# Altium footprint library CDLL5819.PcbLib: 3 footprints
Each footprint in its own frame and in the unit in brackets; x right, y up, seen from the top. Pads: shape width x height; smd on the part's side, far side on the other; paste and mask are expansions set on the pad; w line width, h text height; cw(c..) or ccw(c..) is an arc to the next point about the centre after c.
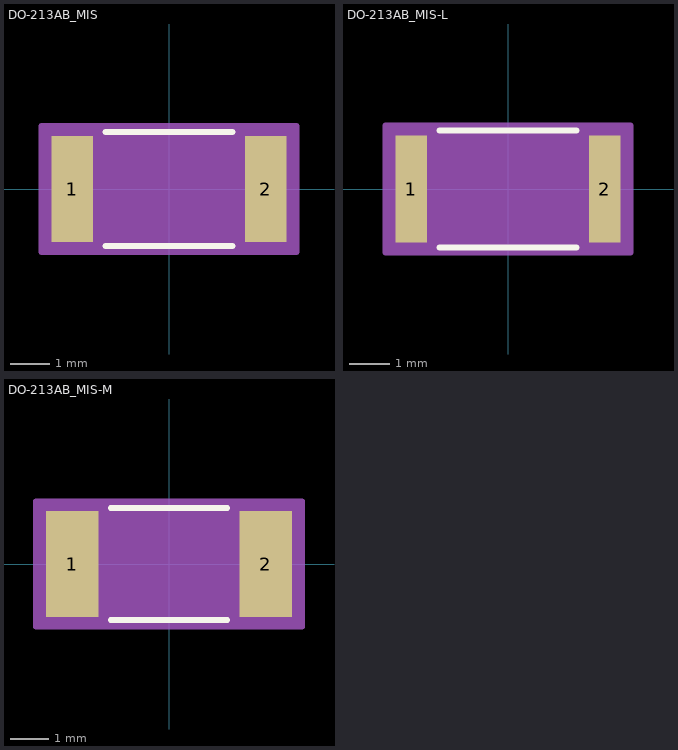
[diagram p0: the footprints below, top view; thin cyan lines are the x and y axes]

## DO-213AB_MIS [mil]
pads (2):
  rect 42x107 smd paste+0 mask+0: 1(-97.5,0) 2(97.5,0)
Top Overlay:
  lines w6: -64.03,-57.5 64.03,-57.5 ; -64.03,57.5 64.03,57.5
Mechanical 5:
  region: 126,-61 -126,-61 -126,61 126,61
Mechanical 13:
  lines w1: -102.5,-26.25 -76.25,-52.5 ; -102.5,26.25 -76.25,52.5 ; -102.5,-52.5 102.5,-52.5 102.5,52.5 -102.5,52.5 -102.5,-52.5
Mechanical 15:
  region: 128.5,-63.5 -128.5,-63.5 -128.5,63.5 128.5,63.5
  lines w6: -128.5,-63.5 -128.5,63.5 128.5,63.5 128.5,-63.5 -128.5,-63.5
3D body "DO-213AB_MIS.step": height 104.61, standoff 0, extent -102.52,-52.4 102.52,52.4

## DO-213AB_MIS-L [mil]
pads (2):
  rect 31x105 smd paste+0 mask+0: 1(-95,0) 2(95,0)
Top Overlay:
  lines w6: -67.39,-57.5 67.39,-57.5 ; -67.39,57.5 67.39,57.5
Mechanical 5:
  region: 118,-60 -118,-60 -118,60 118,60
Mechanical 13:
  lines w1: -102.5,-26.25 -76.25,-52.5 ; -102.5,26.25 -76.25,52.5 ; -102.5,-52.5 102.5,-52.5 102.5,52.5 -102.5,52.5 -102.5,-52.5
Mechanical 15:
  region: 120.5,-62.5 -120.5,-62.5 -120.5,62.5 120.5,62.5
  lines w6: -120.5,-62.5 -120.5,62.5 120.5,62.5 120.5,-62.5 -120.5,-62.5
3D body "DO-213AB_MIS.step": height 104.61, standoff 0, extent -102.52,-52.4 102.52,52.4

## DO-213AB_MIS-M [mil]
pads (2):
  rect 54x109 smd paste+0 mask+0: 1(-99.5,0) 2(99.5,0)
Top Overlay:
  lines w6: -59.75,-57.5 59.75,-57.5 ; -59.75,57.5 59.75,57.5
Mechanical 5:
  region: 134,-62 -134,-62 -134,62 134,62
Mechanical 13:
  lines w1: -102.5,-26.25 -76.25,-52.5 ; -102.5,26.25 -76.25,52.5 ; -102.5,-52.5 102.5,-52.5 102.5,52.5 -102.5,52.5 -102.5,-52.5
Mechanical 15:
  region: 136.5,-64.5 -136.5,-64.5 -136.5,64.5 136.5,64.5
  lines w6: -136.5,-64.5 -136.5,64.5 136.5,64.5 136.5,-64.5 -136.5,-64.5
3D body "DO-213AB_MIS.step": height 104.61, standoff 0, extent -102.52,-52.4 102.52,52.4